# EAGLE library part USB_MICROB_PLUG (library fiozera)
USB Micro-B connectors Some male, some female. Watch your step!
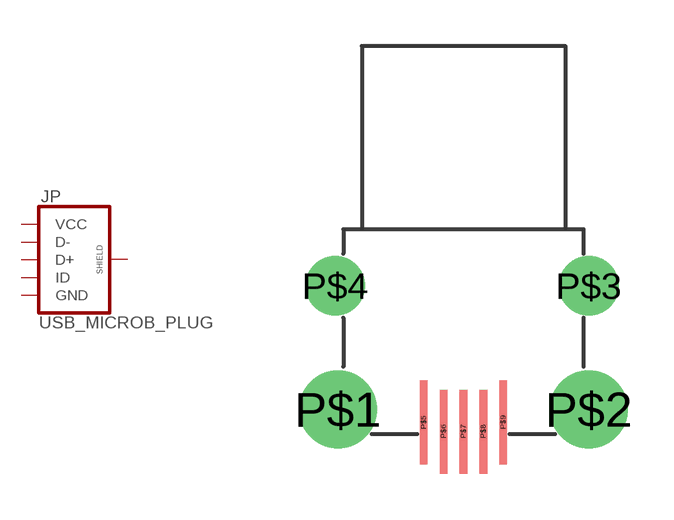
[diagram p2: symbol with the pads of ZX60-B-5S(01); footprint ZX60-B-5S(01)]

Designator prefix JP

## USB_MICROB_PLUG  [ZX60-B-5S(01)]
P$1  SHIELD
P$2  SHIELD
P$3  SHIELD
P$4  SHIELD
P$5  VCC
P$6  D-
P$7  D+
P$8  ID
P$9  GND

## Footprint ZX60-B-5S(01) (pad centres in mm)
drill 1.7: P$1 -4.1,0; P$2 4.1,0
drill 1.3: P$3 4.1,4.05; P$4 -4.2,4.05
smd 0.25 x 2.75: P$5 -1.3,-0.425; P$6 -0.65,-0.725; P$7 0,-0.725; P$8 0.65,-0.725; P$9 1.3,-0.425